# Altium footprint library Headers_Connectors.PcbLib: 45 footprints (part 1 of 3)
Each footprint in its own frame and in the unit in brackets; x right, y up, seen from the top. Pads: shape width x height; smd on the part's side, far side on the other; paste and mask are expansions set on the pad; w line width, h text height; cw(c..) or ccw(c..) is an arc to the next point about the centre after c.
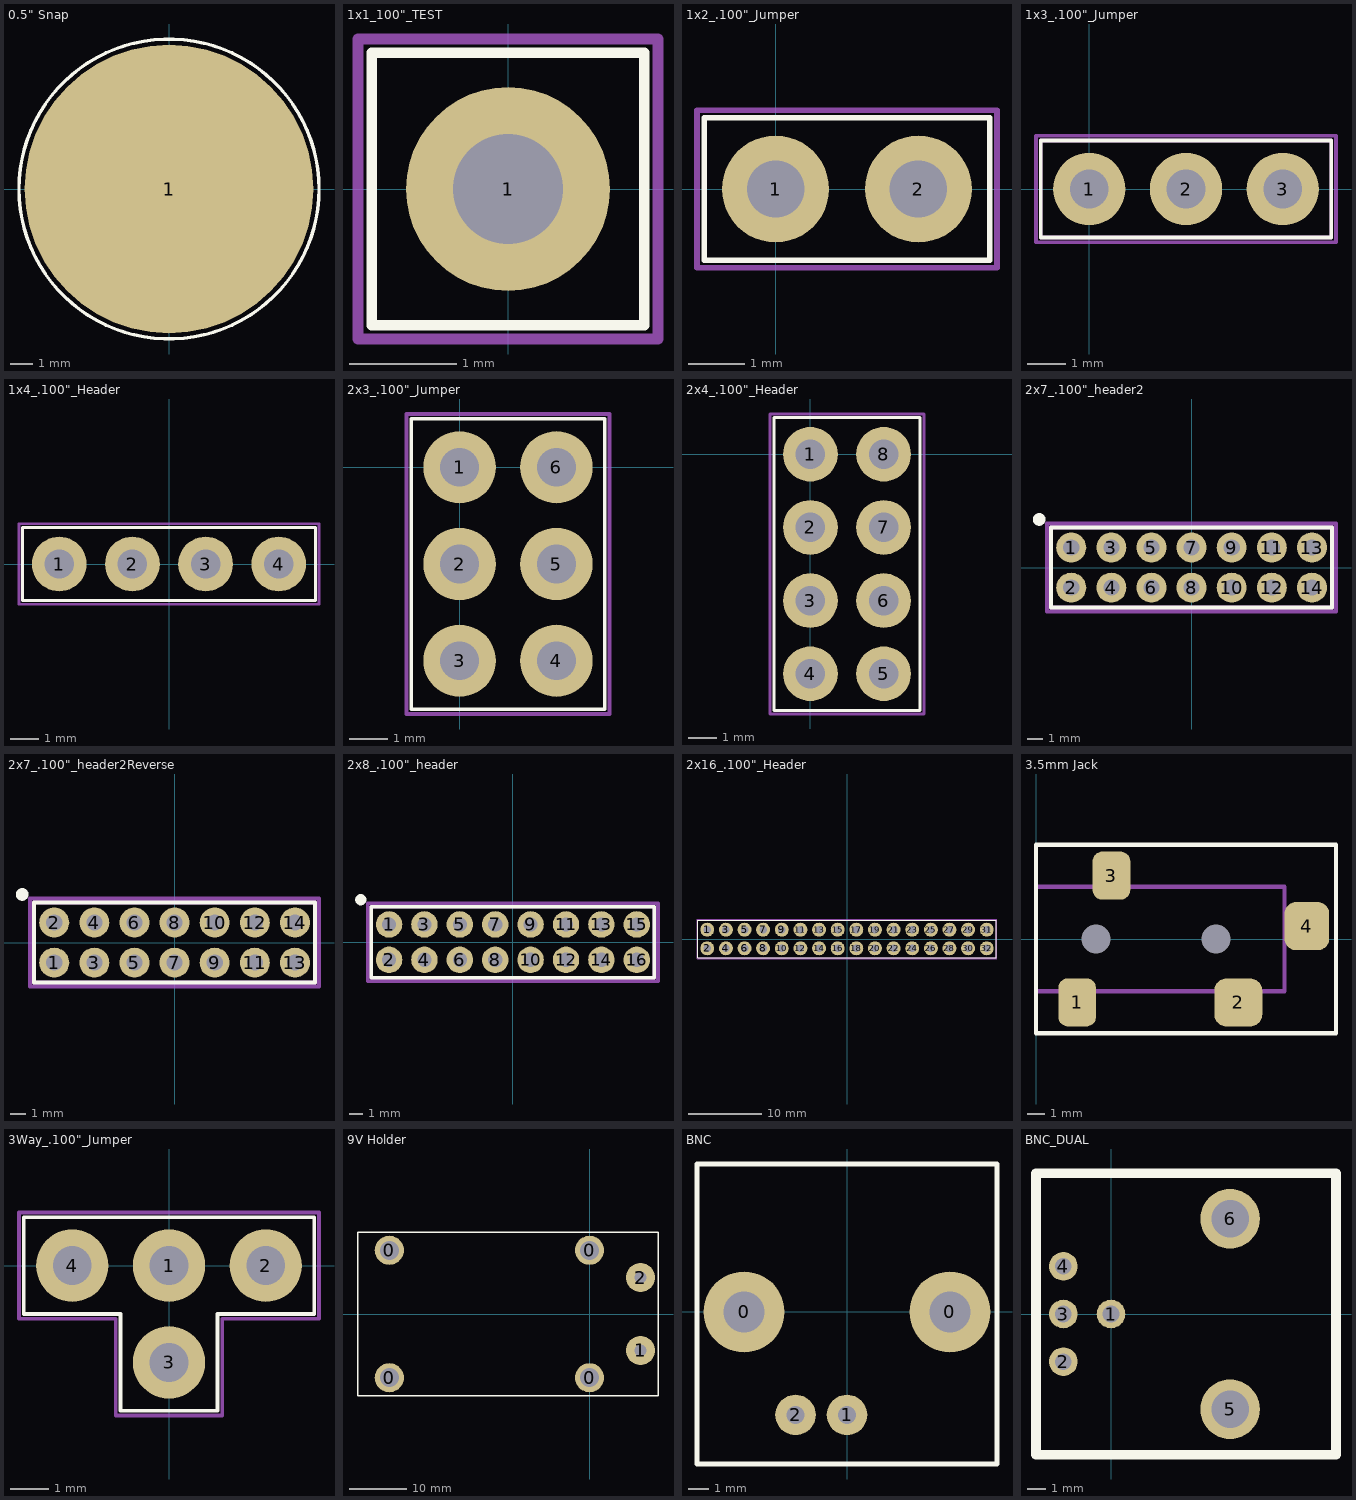
[diagram p0: the footprints below, top view; thin cyan lines are the x and y axes]

## 0.5" Snap [mil]
pads (1):
  round 510 smd: 1(0,0)
Top Overlay:
  circle w6: c0,0 r265

## 1x1_100"_TEST [mm]
pads (1):
  round 1.9 hole 1.02: 1(0,0)
Top Overlay:
  lines w0.1: -1.27,-1.27 -1.27,1.27 1.27,1.27 1.27,-1.27 -1.27,-1.27
Mechanical 15:
  lines w0.1: -1.397,-1.397 1.397,-1.397 1.397,1.397 -1.397,1.397 -1.397,-1.397

## 1x2_.100"_Jumper [mm]
pads (2):
  round 1.9 hole 1.02: 1(0,0) 2(2.54,0)
Top Overlay:
  lines w0.1: -1.27,-1.27 -1.27,1.27 3.81,1.27 3.81,-1.27 -1.27,-1.27
Mechanical 15:
  lines w0.1: -1.397,-1.397 3.937,-1.397 3.937,1.397 -1.397,1.397 -1.397,-1.397
3D body "1x2 .1in header male.stp": height 8.52, standoff -3.02, extent -1.27,-1.27 3.81,1.27

## 1x3_.100"_Jumper [mm]
pads (3):
  round 1.9 hole 1.02: 1(0,0) 2(2.54,0) 3(5.08,0)
Top Overlay:
  lines w0.1: -1.27,-1.27 6.35,-1.27 6.35,1.27 -1.27,1.27 -1.27,-1.27
Mechanical 13:
  lines w0.1: -1.27,-1.27 6.35,-1.27 6.35,1.27 -1.27,1.27 -1.27,-1.27
Mechanical 15:
  lines w0.1: -1.397,-1.397 -1.397,1.397 6.477,1.397 6.477,-1.397 -1.397,-1.397
3D body "1x3 .1in header male.stp": height 8.52, standoff -3.02, extent -1.27,-1.27 6.35,1.27

## 1x4_.100"_Header [mm]
pads (4):
  round 1.9 hole 1.02: 1(-3.81,0) 2(-1.27,0) 3(1.27,0) 4(3.81,0)
Top Overlay:
  lines w0.1: -5.08,-1.27 -5.08,1.27 5.08,1.27 5.08,-1.27 -5.08,-1.27
Mechanical 13:
  lines w0.1: -5.08,-1.27 -5.08,1.27 5.08,1.27 5.08,-1.27 -5.08,-1.27
Mechanical 15:
  lines w0.1: -5.207,-1.397 5.207,-1.397 5.207,1.397 -5.207,1.397 -5.207,-1.397
3D body "1x4 .1in header male.stp": height 8.52, standoff -3.02, extent -5.08,-1.27 5.08,1.27

## 2x3_.100"_Jumper [mm]
pads (6):
  round 1.9 hole 1.02: 1(0,0) 2(0,-2.54) 3(0,-5.08) 4(2.54,-5.08) 5(2.54,-2.54) 6(2.54,0)
Top Overlay:
  lines w0.1: -1.27,-6.35 3.81,-6.35 3.81,1.27 -1.27,1.27 -1.27,-6.35
Mechanical 15:
  lines w0.1: -1.397,-6.477 -1.397,1.397 3.937,1.397 3.937,-6.477 -1.397,-6.477
3D body "Header_.100_3x2.stp": height 8.57, standoff -2.97, extent -1.27,-6.35 3.81,1.27

## 2x4_.100"_Header [mm]
pads (8):
  round 1.9 hole 1.02: 1(0,0) 2(0,-2.54) 3(0,-5.08) 4(0,-7.62) 5(2.54,-7.62) 6(2.54,-5.08) 7(2.54,-2.54) 8(2.54,0)
Top Overlay:
  lines w0.1: -1.27,-8.89 3.81,-8.89 3.81,1.27 -1.27,1.27 -1.27,-8.89
Mechanical 15:
  lines w0.1: -1.397,-9.017 -1.397,1.397 3.937,1.397 3.937,-9.017 -1.397,-9.017
3D body "Download_STP_61300821121 (rev1).stp": height 8.79, standoff -2.75, extent -1.27,-8.89 3.81,1.27

## 2x7_.100"_header2 [mm]
pads (14):
  round 1.9 hole 1.02: 1(-7.62,1.27) 2(-7.62,-1.27) 3(-5.08,1.27) 4(-5.08,-1.27) 5(-2.54,1.27) 6(-2.54,-1.27) 7(0,1.27) 8(0,-1.27) 9(2.54,1.27) 10(2.54,-1.27) 11(5.08,1.27) 12(5.08,-1.27) 13(7.62,1.27) 14(7.62,-1.27)
Top Overlay:
  circle w0.4: c-9.652,3.048 r0.2
  lines w0.254: -8.89,-2.54 -8.89,2.54 8.89,2.54 8.89,-2.54 -8.89,-2.54
Mechanical 13:
  lines w0.254: -8.89,-2.54 -8.89,2.54 8.89,2.54 8.89,-2.54 -8.89,-2.54
Mechanical 15:
  lines w0.254: -9.144,-2.794 9.144,-2.794 9.144,2.794 -9.144,2.794 -9.144,-2.794
3D body "2x7 .1in header male unshrouded.stp": height 8.57, standoff -2.97, extent -8.89,-2.54 8.89,2.54

## 2x7_.100"_header2Reverse [mm]
pads (14):
  round 1.9 hole 1.02: 1(-7.62,-1.27) 2(-7.62,1.27) 3(-5.08,-1.27) 4(-5.08,1.27) 5(-2.54,-1.27) 6(-2.54,1.27) 7(0,-1.27) 8(0,1.27) 9(2.54,-1.27) 10(2.54,1.27) 11(5.08,-1.27) 12(5.08,1.27) 13(7.62,-1.27) 14(7.62,1.27)
Top Overlay:
  circle w0.4: c-9.652,3.048 r0.2
  lines w0.254: -8.89,-2.54 8.89,-2.54 8.89,2.54 -8.89,2.54 -8.89,-2.54
Mechanical 13:
  lines w0.254: -8.89,-2.54 8.89,-2.54 8.89,2.54 -8.89,2.54 -8.89,-2.54
Mechanical 15:
  lines w0.254: -9.144,-2.794 -9.144,2.794 9.144,2.794 9.144,-2.794 -9.144,-2.794
3D body "2x7 .1in header male unshrouded.stp": height 8.57, standoff -2.97, extent -8.89,-2.54 8.89,2.54

## 2x8_.100"_header [mm]
pads (16):
  round 1.9 hole 1.02: 1(-8.89,1.27) 2(-8.89,-1.27) 3(-6.35,1.27) 4(-6.35,-1.27) 5(-3.81,1.27) 6(-3.81,-1.27) 7(-1.27,1.27) 8(-1.27,-1.27) 9(1.27,1.27) 10(1.27,-1.27) 11(3.81,1.27) 12(3.81,-1.27) 13(6.35,1.27) 14(6.35,-1.27) 15(8.89,1.27) 16(8.89,-1.27)
Top Overlay:
  circle w0.4: c-10.922,3.048 r0.2
  lines w0.254: -10.16,-2.54 10.16,-2.54 10.16,2.54 -10.16,2.54 -10.16,-2.54
Mechanical 13:
  lines w0.254: -10.16,-2.54 10.16,-2.54 10.16,2.54 -10.16,2.54 -10.16,-2.54
Mechanical 15:
  lines w0.254: -10.414,-2.794 -10.414,2.794 10.414,2.794 10.414,-2.794 -10.414,-2.794
3D body "Header_.100_8x2.stp": height 8.77, standoff -2.77, extent -10.16,-2.54 10.16,2.54

## 2x16_.100"_Header [mm]
pads (32):
  round 1.9 hole 1.02: 1(-19.05,1.27) 2(-19.05,-1.27) 3(-16.51,1.27) 4(-16.51,-1.27) 5(-13.97,1.27) 6(-13.97,-1.27) 7(-11.43,1.27) 8(-11.43,-1.27) 9(-8.89,1.27) 10(-8.89,-1.27) 11(-6.35,1.27) 12(-6.35,-1.27) 13(-3.81,1.27) 14(-3.81,-1.27) 15(-1.27,1.27) 16(-1.27,-1.27) 17(1.27,1.27) 18(1.27,-1.27) 19(3.81,1.27) 20(3.81,-1.27) 21(6.35,1.27) 22(6.35,-1.27) 23(8.89,1.27) 24(8.89,-1.27) 25(11.43,1.27) 26(11.43,-1.27) 27(13.97,1.27) 28(13.97,-1.27) 29(16.51,1.27) 30(16.51,-1.27) 31(19.05,1.27) 32(19.05,-1.27)
Top Overlay:
  lines w0.1: -20.32,-2.54 -20.32,2.54 20.32,2.54 20.32,-2.54 -20.32,-2.54
Mechanical 13:
  lines w0.1: -20.32,-2.54 -20.32,2.54 20.32,2.54 20.32,-2.54 -20.32,-2.54
Mechanical 15:
  lines w0.1: -20.447,-2.667 -20.447,2.667 20.447,2.667 20.447,-2.667 -20.447,-2.667
3D body "2x16 .1in header male.stp": height 8.67, standoff -2.87, extent -20.32,-2.54 20.32,2.54

## 3.5mm Jack [mm]
pads (6):
  round 0 hole 1.7 unplated: 0(3.5,0) 0(10.5,0)
  rrect50% 2.2x2.8 smd: 1(2.4,-3.7) 3(4.4,3.7)
  rrect50% 2.8x2.8 smd: 2(11.8,-3.7)
  rrect50% 2.6x2.8 smd: 4(15.8,0.75)
Top Overlay:
  lines w0.254: 0,-5.5 17.5,-5.5 17.5,5.5 0,5.5 0,3.05 0,-3.05 0,-5.5
Mechanical 15:
  lines w0.254: 0,-3.05 0,3.05 14.5,3.05 14.5,-3.05 0,-3.05
3D body "CUI_INC_SJ-3523-SMT-TR.step": height 5.1, standoff -0.7, extent -2.5,-4.5 14.5,4.5

## 3Way_.100"_Jumper [mm]
pads (4):
  round 1.9 hole 1.02: 1(0,0) 2(2.54,0) 3(0,-2.54) 4(-2.54,0)
Top Overlay:
  lines w0.1: -3.81,-1.27 -3.81,1.27 3.81,1.27 3.81,-1.27 1.27,-1.27 1.27,-3.81 -1.27,-3.81 -1.27,-1.27 -3.81,-1.27
Mechanical 15:
  lines w0.1: -3.937,-1.397 -3.937,1.397 3.937,1.397 3.937,-1.397 1.397,-1.397 1.397,-3.937 -1.397,-3.937 -1.397,-1.397 -3.937,-1.397

## 9V Holder [mil]
pads (6):
  round 200 hole 130 unplated: 0(-1375,-437.5) 0(-1375,437.5) 0(0,-437.5) 0(0,437.5)
  round 200 hole 81: 1(350,-250) 2(350,250)
Top Overlay:
  lines w10: -1590,-560 470,-560 470,560 -1590,560 -1590,-560
3D body "keystone-PN1291-79.STEP": height 810.6, standoff -373.89, extent -1589,-562.5 370,562.5

## BNC [mm]
pads (4):
  round 4 hole 2.01: 0(-5.08,0) 0(5.08,0)
  round 2 hole 0.89: 1(0,-5.08) 2(-2.54,-5.08)
Top Overlay:
  lines w0.254: -7.4,-7.5 -7.4,7.3 7.4,7.3 7.4,-7.5 -7.4,-7.5
3D body "c-1-1337543-0-f-3d.stp": height 15.65, standoff -4.45, extent -7.35,-7.493 7.35,28.007

## BNC_DUAL [mil]
pads (6):
  round 60 hole 35: 1(0,0) 2(-100,-100) 3(-100,0) 4(-100,100)
  round 125 hole 79: 5(250,-200) 6(250,200)
Top Overlay:
  lines w20: -157.48,-295.28 472.44,-295.28 472.44,295.28 -157.48,295.28 -157.48,-295.28
3D body "31-6575.stp": height 1165.8, standoff -158.05, extent -115,-283.45 1310.6,283.45